# Altium footprint library XTAL 2.5x2.0mm.PcbLib: 1 footprints
Each footprint in its own frame and in the unit in brackets; x right, y up, seen from the top. Pads: shape width x height; smd on the part's side, far side on the other; paste and mask are expansions set on the pad; w line width, h text height; cw(c..) or ccw(c..) is an arc to the next point about the centre after c.
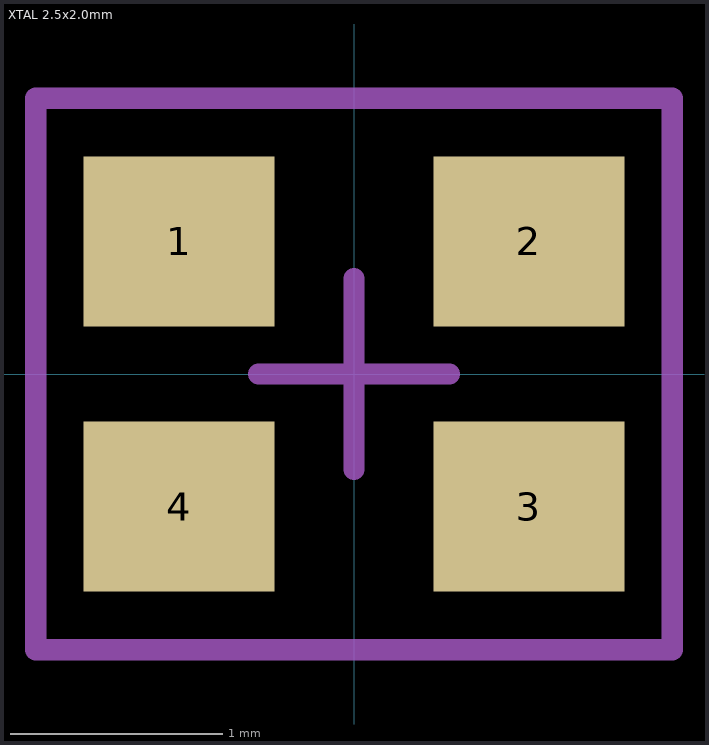
[diagram p0: the footprint, top view; thin cyan lines are the x and y axes]

## XTAL 2.5x2.0mm [mm] "XTAL 2.5x2.0mm Standard Package"
height 0.5
pads (4):
  rect 0.9x0.8 smd: 1(-0.825,0.625) 2(0.825,0.625) 3(0.825,-0.625) 4(-0.825,-0.625)
Top Courtyard:
  lines w0.1: -0.45,0 0.45,0 ; 0,-0.45 0,0.45 ; -1.5,-1.3 1.5,-1.3 1.5,1.3 -1.5,1.3 -1.5,-1.3
3D body: height 0.5, standoff 0, extent -1.275,-1.025 1.275,1.025